# Altium schematic symbol library CONN(2.5mm, 2x1, 2-POS, TH, RA).SchLib: 1 symbol
Pins are listed as number, name and electrical type; pins without a type are passive.

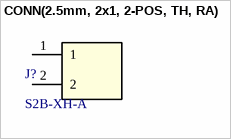
[diagram p0: symbol CONN(2.5mm, 2x1, 2-POS, TH, RA)]

## CONN(2.5mm, 2x1, 2-POS, TH, RA)
designator J?, comment S2B-XH-A
CONN(2.5mm, 2x1, 2-POS, TH, RA); Manufacturer: JST Sales America Inc.; Manufacturer_PN: S2B-XH-A; Datasheet: https://www.jst-mfg.com/product/pdf/eng/eXH.pdf; Digikey_Link: https://www.digikey.it/en/products/detail/jst-sales-america-inc/S2B-XH-A/1651055?s=N4IgTCBcDaIMpgEIFoAaAJZBBAFAGQDEBKHOAOSJAF0BfIA
footprint JST_S2B-XH-A
pins: 1, 2